# Altium footprint library UFQFPN48-7x7mm.PcbLib: 3 footprints
Each footprint in its own frame and in the unit in brackets; x right, y up, seen from the top. Pads: shape width x height; smd on the part's side, far side on the other; paste and mask are expansions set on the pad; w line width, h text height; cw(c..) or ccw(c..) is an arc to the next point about the centre after c.
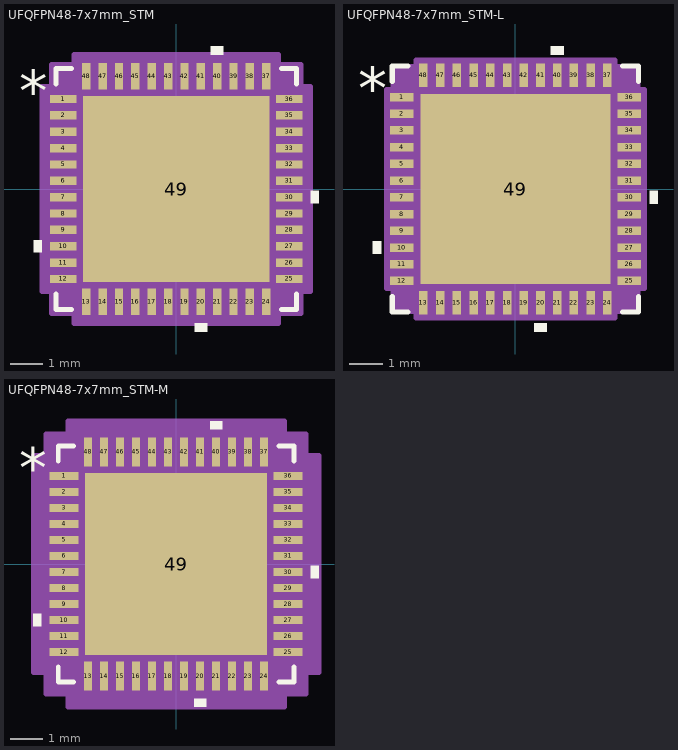
[diagram p0: the footprints below, top view; thin cyan lines are the x and y axes]

## UFQFPN48-7x7mm_STM [mm] "UFQFPN48-7x7mm_STM"
pads (49):
  rect 0.808x0.255 smd paste+0 mask+0: 1(-3.452,2.75) 2(-3.452,2.25) 3(-3.452,1.75) 4(-3.452,1.25) 5(-3.452,0.75) 6(-3.452,0.25) 7(-3.452,-0.25) 8(-3.452,-0.75) 9(-3.452,-1.25) 10(-3.452,-1.75) 11(-3.452,-2.25) 12(-3.452,-2.75) 25(3.452,-2.75) 26(3.452,-2.25) 27(3.452,-1.75) 28(3.452,-1.25) 29(3.452,-0.75) 30(3.452,-0.25) 31(3.452,0.25) 32(3.452,0.75) 33(3.452,1.25) 34(3.452,1.75) 35(3.452,2.25) 36(3.452,2.75)
  rect 0.255x0.808 smd paste+0 mask+0: 13(-2.75,-3.452) 14(-2.25,-3.452) 15(-1.75,-3.452) 16(-1.25,-3.452) 17(-0.75,-3.452) 18(-0.25,-3.452) 19(0.25,-3.452) 20(0.75,-3.452) 21(1.25,-3.452) 22(1.75,-3.452) 23(2.25,-3.452) 24(2.75,-3.452) 37(2.75,3.452) 38(2.25,3.452) 39(1.75,3.452) 40(1.25,3.452) 41(0.75,3.452) 42(0.25,3.452) 43(-0.25,3.452) 44(-0.75,3.452) 45(-1.25,3.452) 46(-1.75,3.452) 47(-2.25,3.452) 48(-2.75,3.452)
  rect 5.69x5.69 smd paste-2.845 mask+0: 49(0,0)
Top Overlay:
  region: 1.441,4.11 1.06,4.11 1.06,4.364 1.441,4.364
  region: 4.11,-0.059 4.364,-0.059 4.364,-0.44 4.11,-0.44
  region: 0.941,-4.11 0.56,-4.11 0.56,-4.364 0.941,-4.364
  region: -4.11,-1.559 -4.364,-1.559 -4.364,-1.94 -4.11,-1.94
  lines w0.152: -3.683,-3.21 -3.683,-3.683 -3.21,-3.683 ; -3.683,3.21 -3.683,3.683 -3.21,3.683 ; 3.21,-3.683 3.683,-3.683 3.683,-3.21 ; 3.21,3.683 3.683,3.683 3.683,3.21
  text ".Designator" at -3.492,-0.635 h1.27
  text "*" at -4.808,2.365 h1.27
Top Paste:
  region: 2.745,-1.522 1.522,-1.522 1.522,-2.745 2.745,-2.745
  region: 2.745,-0.1 1.522,-0.1 1.522,-1.322 2.745,-1.322
  region: 2.745,1.322 1.522,1.322 1.522,0.1 2.745,0.1
  region: 2.745,2.745 1.522,2.745 1.522,1.522 2.745,1.522
  region: 1.322,-1.522 0.1,-1.522 0.1,-2.745 1.322,-2.745
  region: 1.322,-0.1 0.1,-0.1 0.1,-1.322 1.322,-1.322
  region: 1.322,1.322 0.1,1.322 0.1,0.1 1.322,0.1
  region: 1.322,2.745 0.1,2.745 0.1,1.522 1.322,1.522
  region: -0.1,-1.522 -1.322,-1.522 -1.322,-2.745 -0.1,-2.745
  region: -0.1,-0.1 -1.322,-0.1 -1.322,-1.322 -0.1,-1.322
  region: -0.1,1.322 -1.322,1.322 -1.322,0.1 -0.1,0.1
  region: -0.1,2.745 -1.322,2.745 -1.322,1.522 -0.1,1.522
  region: -1.522,-1.522 -2.745,-1.522 -2.745,-2.745 -1.522,-2.745
  region: -1.522,-0.1 -2.745,-0.1 -2.745,-1.322 -1.522,-1.322
  region: -1.522,1.322 -2.745,1.322 -2.745,0.1 -1.522,0.1
  region: -1.522,2.745 -2.745,2.745 -2.745,1.522 -1.522,1.522
Mechanical 13:
  lines w0.025: -3.556,2.286 -2.286,3.556 ; -3.556,-3.556 -3.556,3.556 3.556,3.556 3.556,-3.556 -3.556,-3.556 ; -3.556,-2.902 -3.556,-2.598 -3.556,-2.902 ; -3.556,-2.402 -3.556,-2.098 -3.556,-2.402 ; -3.556,-1.902 -3.556,-1.598 -3.556,-1.902 ; -3.556,-1.402 -3.556,-1.098 -3.556,-1.402 ; -3.556,-0.902 -3.556,-0.598 -3.556,-0.902 ; -3.556,-0.402 -3.556,-0.098 -3.556,-0.402 ; -3.556,0.098 -3.556,0.402 -3.556,0.098 ; -3.556,0.598 -3.556,0.902 -3.556,0.598 ; -3.556,1.098 -3.556,1.402 -3.556,1.098 ; -3.556,1.598 -3.556,1.902 -3.556,1.598 ; -3.556,2.098 -3.556,2.402 -3.556,2.098 ; -3.556,2.598 -3.556,2.902 -3.556,2.598 ; -2.902,-3.556 -2.598,-3.556 -2.902,-3.556 ; -2.902,3.556 -2.598,3.556 -2.902,3.556 ; -2.402,-3.556 -2.098,-3.556 -2.402,-3.556 ; -2.402,3.556 -2.098,3.556 -2.402,3.556 ; -1.902,-3.556 -1.598,-3.556 -1.902,-3.556 ; -1.902,3.556 -1.598,3.556 -1.902,3.556 ; -1.402,-3.556 -1.098,-3.556 -1.402,-3.556 ; -1.402,3.556 -1.098,3.556 -1.402,3.556 ; -0.902,-3.556 -0.598,-3.556 -0.902,-3.556 ; -0.902,3.556 -0.598,3.556 -0.902,3.556 ; -0.402,-3.556 -0.098,-3.556 -0.402,-3.556 ; -0.402,3.556 -0.098,3.556 -0.402,3.556 ; 0.098,-3.556 0.402,-3.556 0.098,-3.556 ; 0.098,3.556 0.402,3.556 0.098,3.556 ; 0.598,-3.556 0.902,-3.556 0.598,-3.556 ; 0.598,3.556 0.902,3.556 0.598,3.556 ; 1.098,-3.556 1.402,-3.556 1.098,-3.556 ; 1.098,3.556 1.402,3.556 1.098,3.556 ; 1.598,-3.556 1.902,-3.556 1.598,-3.556 ; 1.598,3.556 1.902,3.556 1.598,3.556 ; 2.098,-3.556 2.402,-3.556 2.098,-3.556 ; 2.098,3.556 2.402,3.556 2.098,3.556 ; 2.598,-3.556 2.902,-3.556 2.598,-3.556 ; 2.598,3.556 2.902,3.556 2.598,3.556 ; 3.556,-2.902 3.556,-2.598 3.556,-2.902 ; 3.556,-2.402 3.556,-2.098 3.556,-2.402 ; 3.556,-1.902 3.556,-1.598 3.556,-1.902 ; 3.556,-1.402 3.556,-1.098 3.556,-1.402 ; 3.556,-0.902 3.556,-0.598 3.556,-0.902 ; 3.556,-0.402 3.556,-0.098 3.556,-0.402 ; 3.556,0.098 3.556,0.402 3.556,0.098 ; 3.556,0.598 3.556,0.902 3.556,0.598 ; 3.556,1.098 3.556,1.402 3.556,1.098 ; 3.556,1.598 3.556,1.902 3.556,1.598 ; 3.556,2.098 3.556,2.402 3.556,2.098 ; 3.556,2.598 3.556,2.902 3.556,2.598
  text "*" at -3.365,2.365 h1.27
  text ".Designator" at -3.492,-0.635 h1.27
Mechanical 15:
  region: -3.131,-3.81 -3.81,-3.81 -3.81,-3.131 -4.11,-3.131 -4.11,3.131 -3.81,3.131 -3.81,3.81 -3.131,3.81 -3.131,4.11 3.131,4.11 3.131,3.81 3.81,3.81 3.81,3.131 4.11,3.131 4.11,-3.131 3.81,-3.131 3.81,-3.81 3.131,-3.81 3.131,-4.11 -3.131,-4.11
  lines w0.152: -4.11,-3.131 -4.11,3.131 -3.81,3.131 -3.81,3.81 -3.131,3.81 -3.131,4.11 3.131,4.11 3.131,3.81 3.81,3.81 3.81,3.131 4.11,3.131 4.11,-3.131 3.81,-3.131 3.81,-3.81 3.131,-3.81 3.131,-4.11 -3.131,-4.11 -3.131,-3.81 -3.81,-3.81 -3.81,-3.131 -4.11,-3.131
3D body "UFQFPN48-7x7mm_STM.step": height 0.61, standoff 0, extent -3.556,-3.556 3.556,3.556

## UFQFPN48-7x7mm_STM-L [mm] "UFQFPN48-7x7mm_STM-L"
pads (49):
  rect 0.708x0.255 smd paste+0 mask+0: 1(-3.402,2.75) 2(-3.402,2.25) 3(-3.402,1.75) 4(-3.402,1.25) 5(-3.402,0.75) 6(-3.402,0.25) 7(-3.402,-0.25) 8(-3.402,-0.75) 9(-3.402,-1.25) 10(-3.402,-1.75) 11(-3.402,-2.25) 12(-3.402,-2.75) 25(3.402,-2.75) 26(3.402,-2.25) 27(3.402,-1.75) 28(3.402,-1.25) 29(3.402,-0.75) 30(3.402,-0.25) 31(3.402,0.25) 32(3.402,0.75) 33(3.402,1.25) 34(3.402,1.75) 35(3.402,2.25) 36(3.402,2.75)
  rect 0.255x0.708 smd paste+0 mask+0: 13(-2.75,-3.402) 14(-2.25,-3.402) 15(-1.75,-3.402) 16(-1.25,-3.402) 17(-0.75,-3.402) 18(-0.25,-3.402) 19(0.25,-3.402) 20(0.75,-3.402) 21(1.25,-3.402) 22(1.75,-3.402) 23(2.25,-3.402) 24(2.75,-3.402) 37(2.75,3.402) 38(2.25,3.402) 39(1.75,3.402) 40(1.25,3.402) 41(0.75,3.402) 42(0.25,3.402) 43(-0.25,3.402) 44(-0.75,3.402) 45(-1.25,3.402) 46(-1.75,3.402) 47(-2.25,3.402) 48(-2.75,3.402)
  rect 5.69x5.69 smd paste-2.845 mask+0: 49(0,0)
Top Overlay:
  region: 1.441,4.01 1.06,4.01 1.06,4.264 1.441,4.264
  region: 4.01,-0.059 4.264,-0.059 4.264,-0.44 4.01,-0.44
  region: 0.941,-4.01 0.56,-4.01 0.56,-4.264 0.941,-4.264
  region: -4.01,-1.559 -4.264,-1.559 -4.264,-1.94 -4.01,-1.94
  lines w0.152: -3.683,-3.21 -3.683,-3.683 -3.21,-3.683 ; -3.683,3.21 -3.683,3.683 -3.21,3.683 ; 3.21,-3.683 3.683,-3.683 3.683,-3.21 ; 3.21,3.683 3.683,3.683 3.683,3.21
  text ".Designator" at -3.492,-0.635 h1.27
  text "*" at -4.708,2.365 h1.27
Top Paste:
  region: 2.745,-1.522 1.522,-1.522 1.522,-2.745 2.745,-2.745
  region: 2.745,-0.1 1.522,-0.1 1.522,-1.322 2.745,-1.322
  region: 2.745,1.322 1.522,1.322 1.522,0.1 2.745,0.1
  region: 2.745,2.745 1.522,2.745 1.522,1.522 2.745,1.522
  region: 1.322,-1.522 0.1,-1.522 0.1,-2.745 1.322,-2.745
  region: 1.322,-0.1 0.1,-0.1 0.1,-1.322 1.322,-1.322
  region: 1.322,1.322 0.1,1.322 0.1,0.1 1.322,0.1
  region: 1.322,2.745 0.1,2.745 0.1,1.522 1.322,1.522
  region: -0.1,-1.522 -1.322,-1.522 -1.322,-2.745 -0.1,-2.745
  region: -0.1,-0.1 -1.322,-0.1 -1.322,-1.322 -0.1,-1.322
  region: -0.1,1.322 -1.322,1.322 -1.322,0.1 -0.1,0.1
  region: -0.1,2.745 -1.322,2.745 -1.322,1.522 -0.1,1.522
  region: -1.522,-1.522 -2.745,-1.522 -2.745,-2.745 -1.522,-2.745
  region: -1.522,-0.1 -2.745,-0.1 -2.745,-1.322 -1.522,-1.322
  region: -1.522,1.322 -2.745,1.322 -2.745,0.1 -1.522,0.1
  region: -1.522,2.745 -2.745,2.745 -2.745,1.522 -1.522,1.522
Mechanical 13:
  lines w0.025: -3.556,2.286 -2.286,3.556 ; -3.556,-3.556 -3.556,3.556 3.556,3.556 3.556,-3.556 -3.556,-3.556 ; -3.556,-2.902 -3.556,-2.598 -3.556,-2.902 ; -3.556,-2.402 -3.556,-2.098 -3.556,-2.402 ; -3.556,-1.902 -3.556,-1.598 -3.556,-1.902 ; -3.556,-1.402 -3.556,-1.098 -3.556,-1.402 ; -3.556,-0.902 -3.556,-0.598 -3.556,-0.902 ; -3.556,-0.402 -3.556,-0.098 -3.556,-0.402 ; -3.556,0.098 -3.556,0.402 -3.556,0.098 ; -3.556,0.598 -3.556,0.902 -3.556,0.598 ; -3.556,1.098 -3.556,1.402 -3.556,1.098 ; -3.556,1.598 -3.556,1.902 -3.556,1.598 ; -3.556,2.098 -3.556,2.402 -3.556,2.098 ; -3.556,2.598 -3.556,2.902 -3.556,2.598 ; -2.902,-3.556 -2.598,-3.556 -2.902,-3.556 ; -2.902,3.556 -2.598,3.556 -2.902,3.556 ; -2.402,-3.556 -2.098,-3.556 -2.402,-3.556 ; -2.402,3.556 -2.098,3.556 -2.402,3.556 ; -1.902,-3.556 -1.598,-3.556 -1.902,-3.556 ; -1.902,3.556 -1.598,3.556 -1.902,3.556 ; -1.402,-3.556 -1.098,-3.556 -1.402,-3.556 ; -1.402,3.556 -1.098,3.556 -1.402,3.556 ; -0.902,-3.556 -0.598,-3.556 -0.902,-3.556 ; -0.902,3.556 -0.598,3.556 -0.902,3.556 ; -0.402,-3.556 -0.098,-3.556 -0.402,-3.556 ; -0.402,3.556 -0.098,3.556 -0.402,3.556 ; 0.098,-3.556 0.402,-3.556 0.098,-3.556 ; 0.098,3.556 0.402,3.556 0.098,3.556 ; 0.598,-3.556 0.902,-3.556 0.598,-3.556 ; 0.598,3.556 0.902,3.556 0.598,3.556 ; 1.098,-3.556 1.402,-3.556 1.098,-3.556 ; 1.098,3.556 1.402,3.556 1.098,3.556 ; 1.598,-3.556 1.902,-3.556 1.598,-3.556 ; 1.598,3.556 1.902,3.556 1.598,3.556 ; 2.098,-3.556 2.402,-3.556 2.098,-3.556 ; 2.098,3.556 2.402,3.556 2.098,3.556 ; 2.598,-3.556 2.902,-3.556 2.598,-3.556 ; 2.598,3.556 2.902,3.556 2.598,3.556 ; 3.556,-2.902 3.556,-2.598 3.556,-2.902 ; 3.556,-2.402 3.556,-2.098 3.556,-2.402 ; 3.556,-1.902 3.556,-1.598 3.556,-1.902 ; 3.556,-1.402 3.556,-1.098 3.556,-1.402 ; 3.556,-0.902 3.556,-0.598 3.556,-0.902 ; 3.556,-0.402 3.556,-0.098 3.556,-0.402 ; 3.556,0.098 3.556,0.402 3.556,0.098 ; 3.556,0.598 3.556,0.902 3.556,0.598 ; 3.556,1.098 3.556,1.402 3.556,1.098 ; 3.556,1.598 3.556,1.902 3.556,1.598 ; 3.556,2.098 3.556,2.402 3.556,2.098 ; 3.556,2.598 3.556,2.902 3.556,2.598
  text "*" at -3.365,2.365 h1.27
  text ".Designator" at -3.492,-0.635 h1.27
Mechanical 15:
  region: -2.979,-3.658 -3.658,-3.658 -3.658,-2.979 -3.858,-2.979 -3.858,2.979 -3.658,2.979 -3.658,3.658 -2.979,3.658 -2.979,3.858 2.979,3.858 2.979,3.658 3.658,3.658 3.658,2.979 3.858,2.979 3.858,-2.979 3.658,-2.979 3.658,-3.658 2.979,-3.658 2.979,-3.858 -2.979,-3.858
  lines w0.152: -3.858,-2.979 -3.858,2.979 -3.658,2.979 -3.658,3.658 -2.979,3.658 -2.979,3.858 2.979,3.858 2.979,3.658 3.658,3.658 3.658,2.979 3.858,2.979 3.858,-2.979 3.658,-2.979 3.658,-3.658 2.979,-3.658 2.979,-3.858 -2.979,-3.858 -2.979,-3.658 -3.658,-3.658 -3.658,-2.979 -3.858,-2.979
3D body "UFQFPN48-7x7mm_STM.step": height 0.61, standoff 0, extent -3.556,-3.556 3.556,3.556

## UFQFPN48-7x7mm_STM-M [mm] "UFQFPN48-7x7mm_STM-M"
pads (49):
  rect 0.908x0.255 smd paste+0 mask+0: 1(-3.502,2.75) 2(-3.502,2.25) 3(-3.502,1.75) 4(-3.502,1.25) 5(-3.502,0.75) 6(-3.502,0.25) 7(-3.502,-0.25) 8(-3.502,-0.75) 9(-3.502,-1.25) 10(-3.502,-1.75) 11(-3.502,-2.25) 12(-3.502,-2.75) 25(3.502,-2.75) 26(3.502,-2.25) 27(3.502,-1.75) 28(3.502,-1.25) 29(3.502,-0.75) 30(3.502,-0.25) 31(3.502,0.25) 32(3.502,0.75) 33(3.502,1.25) 34(3.502,1.75) 35(3.502,2.25) 36(3.502,2.75)
  rect 0.255x0.908 smd paste+0 mask+0: 13(-2.75,-3.502) 14(-2.25,-3.502) 15(-1.75,-3.502) 16(-1.25,-3.502) 17(-0.75,-3.502) 18(-0.25,-3.502) 19(0.25,-3.502) 20(0.75,-3.502) 21(1.25,-3.502) 22(1.75,-3.502) 23(2.25,-3.502) 24(2.75,-3.502) 37(2.75,3.502) 38(2.25,3.502) 39(1.75,3.502) 40(1.25,3.502) 41(0.75,3.502) 42(0.25,3.502) 43(-0.25,3.502) 44(-0.75,3.502) 45(-1.25,3.502) 46(-1.75,3.502) 47(-2.25,3.502) 48(-2.75,3.502)
  rect 5.69x5.69 smd paste-2.845 mask+0: 49(0,0)
Top Overlay:
  region: 1.441,4.21 1.06,4.21 1.06,4.464 1.441,4.464
  region: 4.21,-0.059 4.464,-0.059 4.464,-0.44 4.21,-0.44
  region: 0.941,-4.21 0.56,-4.21 0.56,-4.464 0.941,-4.464
  region: -4.21,-1.559 -4.464,-1.559 -4.464,-1.94 -4.21,-1.94
  lines w0.152: -3.683,-3.21 -3.683,-3.683 -3.21,-3.683 ; -3.683,3.21 -3.683,3.683 -3.21,3.683 ; 3.21,-3.683 3.683,-3.683 3.683,-3.21 ; 3.21,3.683 3.683,3.683 3.683,3.21
  text ".Designator" at -3.492,-0.635 h1.27
  text "*" at -4.908,2.365 h1.27
Top Paste:
  region: 2.745,-1.522 1.522,-1.522 1.522,-2.745 2.745,-2.745
  region: 2.745,-0.1 1.522,-0.1 1.522,-1.322 2.745,-1.322
  region: 2.745,1.322 1.522,1.322 1.522,0.1 2.745,0.1
  region: 2.745,2.745 1.522,2.745 1.522,1.522 2.745,1.522
  region: 1.322,-1.522 0.1,-1.522 0.1,-2.745 1.322,-2.745
  region: 1.322,-0.1 0.1,-0.1 0.1,-1.322 1.322,-1.322
  region: 1.322,1.322 0.1,1.322 0.1,0.1 1.322,0.1
  region: 1.322,2.745 0.1,2.745 0.1,1.522 1.322,1.522
  region: -0.1,-1.522 -1.322,-1.522 -1.322,-2.745 -0.1,-2.745
  region: -0.1,-0.1 -1.322,-0.1 -1.322,-1.322 -0.1,-1.322
  region: -0.1,1.322 -1.322,1.322 -1.322,0.1 -0.1,0.1
  region: -0.1,2.745 -1.322,2.745 -1.322,1.522 -0.1,1.522
  region: -1.522,-1.522 -2.745,-1.522 -2.745,-2.745 -1.522,-2.745
  region: -1.522,-0.1 -2.745,-0.1 -2.745,-1.322 -1.522,-1.322
  region: -1.522,1.322 -2.745,1.322 -2.745,0.1 -1.522,0.1
  region: -1.522,2.745 -2.745,2.745 -2.745,1.522 -1.522,1.522
Mechanical 13:
  lines w0.025: -3.556,2.286 -2.286,3.556 ; -3.556,-3.556 -3.556,3.556 3.556,3.556 3.556,-3.556 -3.556,-3.556 ; -3.556,-2.902 -3.556,-2.598 -3.556,-2.902 ; -3.556,-2.402 -3.556,-2.098 -3.556,-2.402 ; -3.556,-1.902 -3.556,-1.598 -3.556,-1.902 ; -3.556,-1.402 -3.556,-1.098 -3.556,-1.402 ; -3.556,-0.902 -3.556,-0.598 -3.556,-0.902 ; -3.556,-0.402 -3.556,-0.098 -3.556,-0.402 ; -3.556,0.098 -3.556,0.402 -3.556,0.098 ; -3.556,0.598 -3.556,0.902 -3.556,0.598 ; -3.556,1.098 -3.556,1.402 -3.556,1.098 ; -3.556,1.598 -3.556,1.902 -3.556,1.598 ; -3.556,2.098 -3.556,2.402 -3.556,2.098 ; -3.556,2.598 -3.556,2.902 -3.556,2.598 ; -2.902,-3.556 -2.598,-3.556 -2.902,-3.556 ; -2.902,3.556 -2.598,3.556 -2.902,3.556 ; -2.402,-3.556 -2.098,-3.556 -2.402,-3.556 ; -2.402,3.556 -2.098,3.556 -2.402,3.556 ; -1.902,-3.556 -1.598,-3.556 -1.902,-3.556 ; -1.902,3.556 -1.598,3.556 -1.902,3.556 ; -1.402,-3.556 -1.098,-3.556 -1.402,-3.556 ; -1.402,3.556 -1.098,3.556 -1.402,3.556 ; -0.902,-3.556 -0.598,-3.556 -0.902,-3.556 ; -0.902,3.556 -0.598,3.556 -0.902,3.556 ; -0.402,-3.556 -0.098,-3.556 -0.402,-3.556 ; -0.402,3.556 -0.098,3.556 -0.402,3.556 ; 0.098,-3.556 0.402,-3.556 0.098,-3.556 ; 0.098,3.556 0.402,3.556 0.098,3.556 ; 0.598,-3.556 0.902,-3.556 0.598,-3.556 ; 0.598,3.556 0.902,3.556 0.598,3.556 ; 1.098,-3.556 1.402,-3.556 1.098,-3.556 ; 1.098,3.556 1.402,3.556 1.098,3.556 ; 1.598,-3.556 1.902,-3.556 1.598,-3.556 ; 1.598,3.556 1.902,3.556 1.598,3.556 ; 2.098,-3.556 2.402,-3.556 2.098,-3.556 ; 2.098,3.556 2.402,3.556 2.098,3.556 ; 2.598,-3.556 2.902,-3.556 2.598,-3.556 ; 2.598,3.556 2.902,3.556 2.598,3.556 ; 3.556,-2.902 3.556,-2.598 3.556,-2.902 ; 3.556,-2.402 3.556,-2.098 3.556,-2.402 ; 3.556,-1.902 3.556,-1.598 3.556,-1.902 ; 3.556,-1.402 3.556,-1.098 3.556,-1.402 ; 3.556,-0.902 3.556,-0.598 3.556,-0.902 ; 3.556,-0.402 3.556,-0.098 3.556,-0.402 ; 3.556,0.098 3.556,0.402 3.556,0.098 ; 3.556,0.598 3.556,0.902 3.556,0.598 ; 3.556,1.098 3.556,1.402 3.556,1.098 ; 3.556,1.598 3.556,1.902 3.556,1.598 ; 3.556,2.098 3.556,2.402 3.556,2.098 ; 3.556,2.598 3.556,2.902 3.556,2.598
  text "*" at -3.365,2.365 h1.27
  text ".Designator" at -3.492,-0.635 h1.27
Mechanical 15:
  region: -3.385,-4.064 -4.064,-4.064 -4.064,-3.385 -4.464,-3.385 -4.464,3.385 -4.064,3.385 -4.064,4.064 -3.385,4.064 -3.385,4.464 3.385,4.464 3.385,4.064 4.064,4.064 4.064,3.385 4.464,3.385 4.464,-3.385 4.064,-3.385 4.064,-4.064 3.385,-4.064 3.385,-4.464 -3.385,-4.464
  lines w0.152: -4.464,-3.385 -4.464,3.385 -4.064,3.385 -4.064,4.064 -3.385,4.064 -3.385,4.464 3.385,4.464 3.385,4.064 4.064,4.064 4.064,3.385 4.464,3.385 4.464,-3.385 4.064,-3.385 4.064,-4.064 3.385,-4.064 3.385,-4.464 -3.385,-4.464 -3.385,-4.064 -4.064,-4.064 -4.064,-3.385 -4.464,-3.385
3D body "UFQFPN48-7x7mm_STM.step": height 0.61, standoff 0, extent -3.556,-3.556 3.556,3.556